# EAGLE library part TMP75 (library ICs)
Temperature Sensor IC, Digital, ± 0.5°C, -40 °C, +125 °C, SOIC, 8 Pins
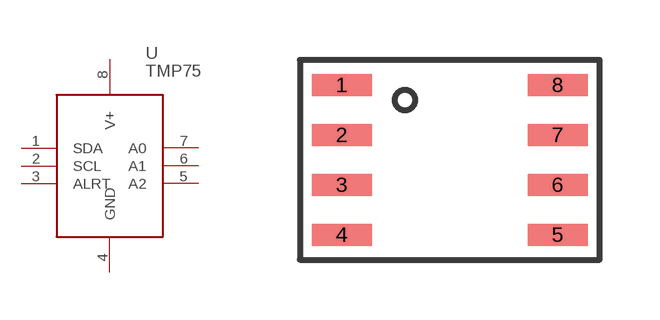
[diagram p160: symbol with the pads of SO8; footprint SO8]

Designator prefix U

## TMP75AIDR (FARNELL: 8455970; PRICE_PER: 0.944; VALUE: TMP75)  [SO8]
1  SDA
2  SCL
3  ALRT
4  GND
5  A2
6  A1
7  A0
8  V+

## Footprint SO8 (pad centres in mm)
smd 1.5 x 0.55: 1 -2.7,1.875; 2 -2.7,0.625; 3 -2.7,-0.625; 4 -2.7,-1.875; 5 2.7,-1.875; 6 2.7,-0.625; 7 2.7,0.625; 8 2.7,1.875